# EAGLE library part AD706JNZ (library AD706JNZ)
Dual Picoampere Input Current Bipolar Op Amp
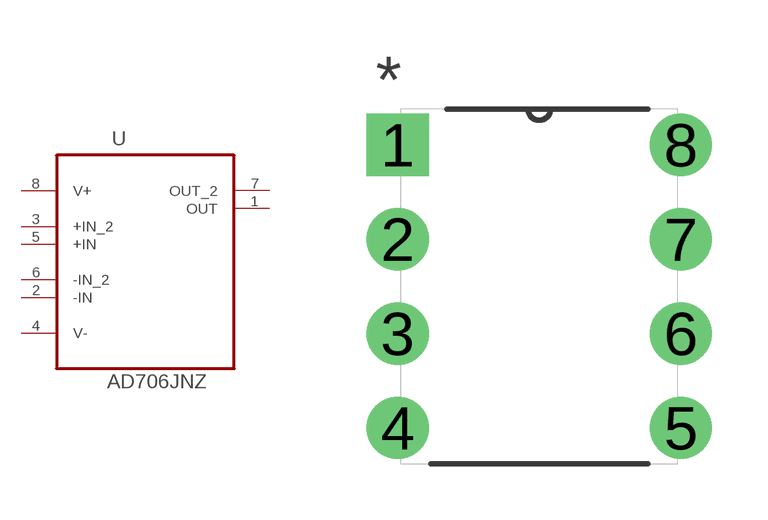
[diagram p0: symbol with the pads of DIP254P762X457-8; footprint DIP254P762X457-8]

Designator prefix U

## AD706JNZ (Availability: Unavailable; Description: 8pin Dip/Pkg Dual Picoampere Input Current Bipolar Op Amp Rohs-Compliant#; MF: Analog Devices; MP: AD706JNZ; Package: PDIP-8 Analog Devices; Price: None)  [DIP254P762X457-8]
1  OUT  out
2  -IN  in
3  +IN_2  in
4  V-  pwr
5  +IN  in
6  -IN_2  in
7  OUT_2  out
8  V+  pwr

## Footprint DIP254P762X457-8 (pad centres in mm)
drill 1.118 square: 1 -7.62,7.62
drill 1.118: 2 -7.62,5.08; 3 -7.62,2.54; 4 -7.62,0; 5 0,0; 6 0,2.54; 7 0,5.08; 8 0,7.62